# EAGLE library part BQ28Z610 (library m_ic-power)
bq28z610 Impedance TrackTM Gas Gauge and Protection Solution for 1-Series to 2-Series Cell Li-Ion Battery Packs Features Autonomous Battery Charging Control Using Dedicated Master Mode I2CTM Interface Cell Balancing with Internal Bypass To Optimize Battery Health High-Side Protection N-CH FET Drive Allows Serial Bus Communication During Fault Conditions Programmable Protection Levels for Voltage, Current, and Temperature Analog Front End with Two Independent ADCs Support for Simultaneous Current and Voltage Sampling High-Accuracy Coulomb Counter with Input Offset Error < 1 μV (Typical) Supports Down to 1-mΩ Current Sense Resistor While Capable of 1-mA Current Measurement Supports Battery Trip Point (BTP) Function for Windows® Integration SHA-1 Authentication Responder for Increased Battery Pack Security 400-kHz I2C Bus Communications Interface for High-Speed Programming and Data Access Compact 12-Pin VSON Package (DRZ) Description The Texas Instruments bq28z610 device is a highly integrated, accurate, 1-series to 2-series cell gas gauge and protection solution, enabling autonomous charger control and cell balancing. The bq28z610 device enables autonomous charge control through Master Mode I2C broadcasts of charging current and voltage information, eliminating software overhead that is typically incurred by the system's host controller. The bq28z610 device provides a fully integrated pack-based solution with a flash programmable custom reduced instruction-set CPU (RISC), safety protection, and authentication for 1- to 2-series cell Li-Ion and Li-Polymer battery packs. The bq28z610 gas gauge communicates via an I2C compatible interface and combines an ultra-low- power, high-speed TI bqBMP processor, high- accuracy analog measurement capabilities, integrated flash memory, an array of peripheral and communication ports, an N-CH FET drive, and a SHA-1 Authentication transform responder into a complete, high-performance battery management solution. Based on data from TI document SLUSAS3B – APRIL 2014 – REVISED DECEMBER 2015. Added 2016-07-24
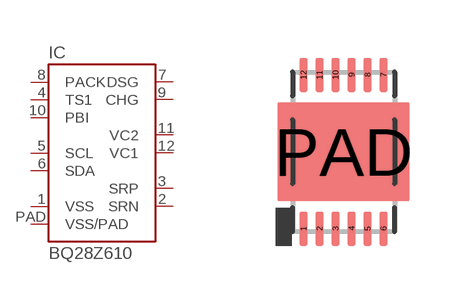
[diagram p9: symbol with the pads of S-PDSO-N12; footprint S-PDSO-N12]

Designator prefix IC

## BQ28Z610 (MANUF: TI; PARTNUM: bq28z610)  [S-PDSO-N12]
1  VSS  pas
2  SRN  pas
3  SRP  pas
4  TS1  pas
5  SCL  pas
6  SDA  pas
7  DSG  pas
8  PACK  pas
9  CHG  pas
10  PBI  pas
11  VC2  pas
12  VC1  pas
PAD  VSS/PAD  pas

## Footprint S-PDSO-N12 (pad centres in mm)
12 Pin PDSO Package. 2.5mm x 4mm x 1.0mm Plastic Small Outline No-Lead, based on TI drawings 4207806/B 04/06, 4208114/F 10/14, 4208113/D 10/14. Note: TI recommends 0.05mm solder mask clearance for this footprint. 6x 0.3mm diameter thermal vias recommended in thermal pad. Added 5/31/2016.
smd 0.2 x 0.85: 1 -1,-1.925; 2 -0.6,-1.925; 3 -0.2,-1.925; 4 0.2,-1.925; 5 0.6,-1.925; 6 1,-1.925; 7 1,1.925; 8 0.6,1.925; 9 0.2,1.925; 10 -0.2,1.925; 11 -0.6,1.925; 12 -1,1.925
smd 3.3 x 2.45: PAD 0,0